# EAGLE library part 687136 (library con-Wurth-6871)
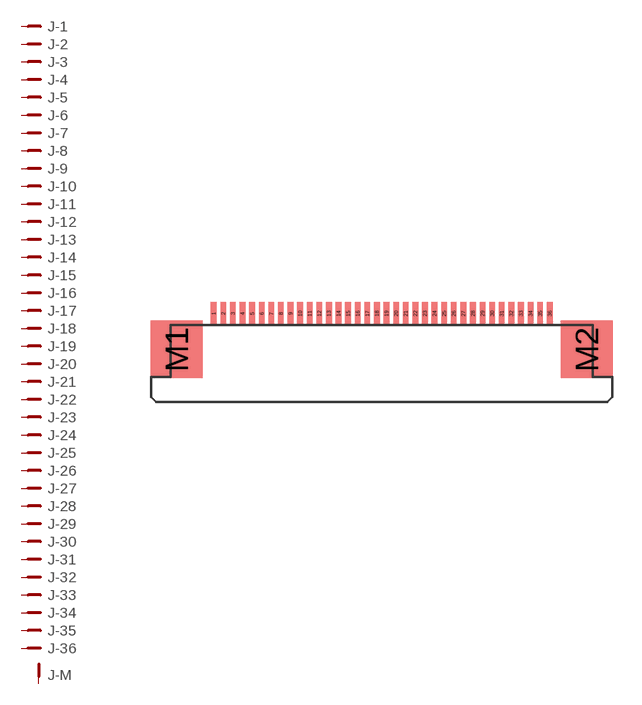
[diagram p2: symbol with the pads of 68713614022; footprint 68713614022]

Designator prefix J; gates -1=PIN -2=PIN -3=PIN -4=PIN -5=PIN -6=PIN -7=PIN -8=PIN -9=PIN -10=PIN -11=PIN -12=PIN -13=PIN -14=PIN -15=PIN -16=PIN -17=PIN -18=PIN -19=PIN -20=PIN -21=PIN -22=PIN -23=PIN -24=PIN -25=PIN -26=PIN -27=PIN -28=PIN -29=PIN -30=PIN -M=PIN-MECH -31=PIN -32=PIN -33=PIN -34=PIN -35=PIN -36=PIN

## 68713614022  [68713614022]
1  -1:1  pas
2  -2:1  pas
3  -3:1  pas
4  -4:1  pas
5  -5:1  pas
6  -6:1  pas
7  -7:1  pas
8  -8:1  pas
9  -9:1  pas
10  -10:1  pas
11  -11:1  pas
12  -12:1  pas
13  -13:1  pas
14  -14:1  pas
15  -15:1  pas
16  -16:1  pas
17  -17:1  pas
18  -18:1  pas
19  -19:1  pas
20  -20:1  pas
21  -21:1  pas
22  -22:1  pas
23  -23:1  pas
24  -24:1  pas
25  -25:1  pas
26  -26:1  pas
27  -27:1  pas
28  -28:1  pas
29  -29:1  pas
30  -30:1  pas
31  -31:1  pas
32  -32:1  pas
33  -33:1  pas
34  -34:1  pas
35  -35:1  pas
36  -36:1  pas
M1  -M:1  pas
M2  -M:1  pas

## Footprint 68713614022 (pad centres in mm)
smd 0.3 x 1.2: 1 -8.75,2.1; 2 -8.25,2.1; 3 -7.75,2.1; 4 -7.25,2.1; 5 -6.75,2.1; 6 -6.25,2.1; 7 -5.75,2.1; 8 -5.25,2.1; 9 -4.75,2.1; 10 -4.25,2.1; 11 -3.75,2.1; 12 -3.25,2.1; 13 -2.75,2.1; 14 -2.25,2.1; 15 -1.75,2.1; 16 -1.25,2.1; 17 -0.75,2.1; 18 -0.25,2.1; 19 0.25,2.1; 20 0.75,2.1; 21 1.25,2.1; 22 1.75,2.1; 23 2.25,2.1; 24 2.75,2.1; 25 3.25,2.1; 26 3.75,2.1; 27 4.25,2.1; 28 4.75,2.1; 29 5.25,2.1; 30 5.75,2.1; 31 6.25,2.1; 32 6.75,2.1; 33 7.25,2.1; 34 7.75,2.1; 35 8.25,2.1; 36 8.75,2.1
smd 2.7 x 3: M1 -10.68,0.24; M2 10.68,0.24